# Altium schematic symbol library Compact Flash Reader2.SCHLIB: 61 symbols
Pins are listed as number, name and electrical type; pins without a type are passive.

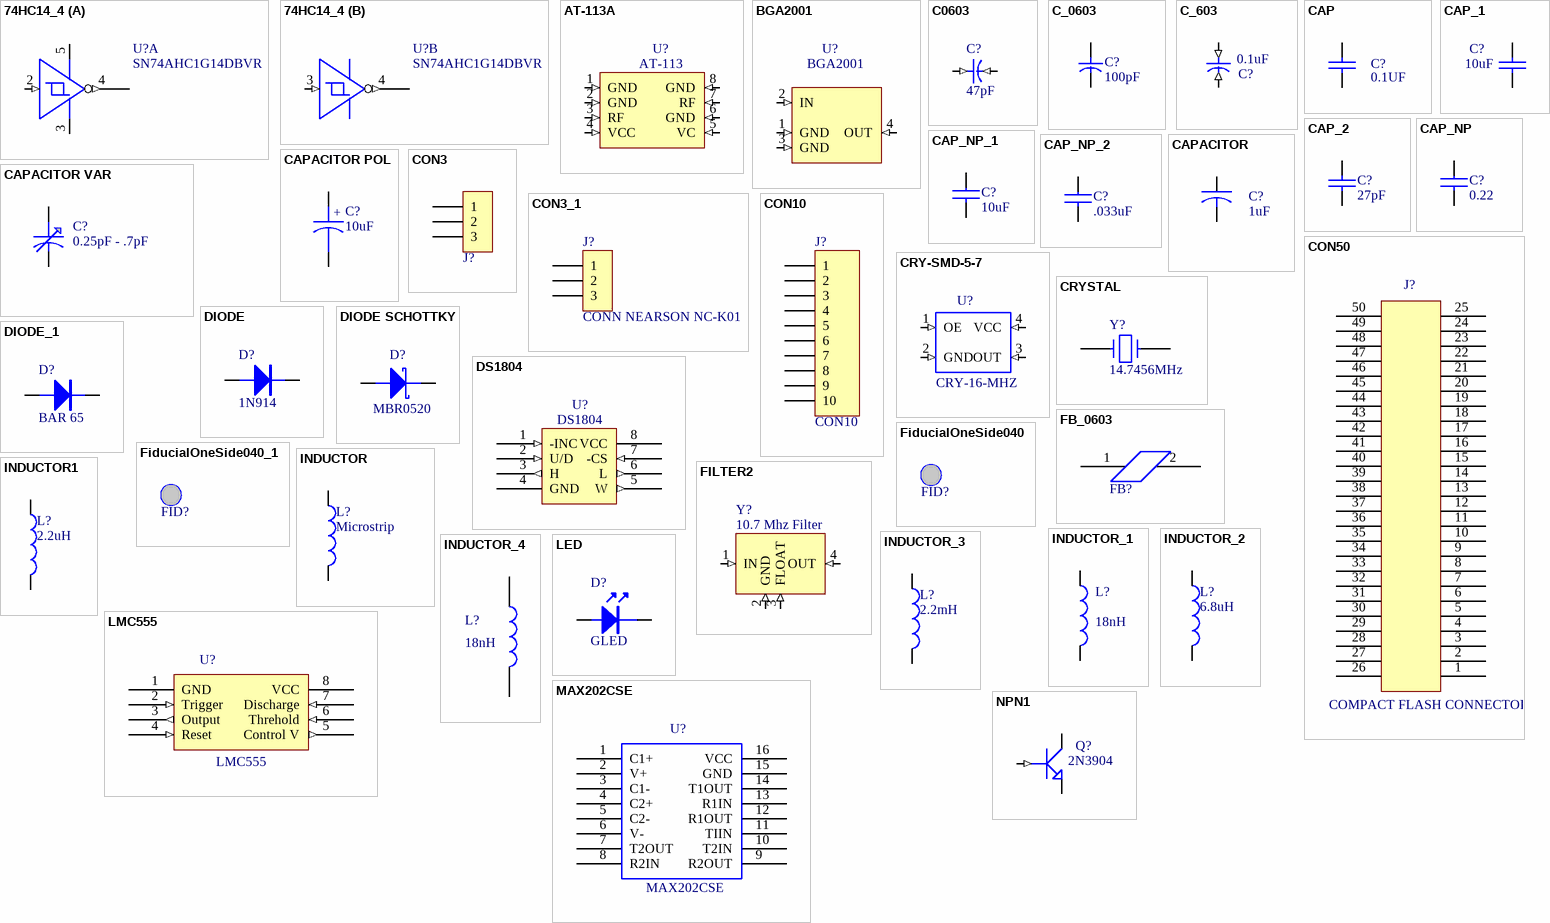
[diagram p0: symbols 74HC14_4 to NPN1]

## 74HC14_4
designator U?, comment SN74AHC1G14DBVR
footprint SOT23-5A
part A pins: 2 (in), 3, 4 (out), 5
part B pins: 3 2 (in), 4 (out)

## AT-113A
designator U?, comment AT-113
footprint SO8
pins: 1 GND (in), 2 GND (in), 3 RF (in), 4 VCC (in), 5 VC (in), 6 GND (in), 7 RF (in), 8 GND (in)

## BGA2001
designator U?
footprint SOT343
pins: 1 GND (in), 2 IN (in), 3 GND (in), 4 OUT (in)

## C0603
designator C?, comment 47pF
Part Field 1: Part Number 0603N470J500NT; Part Field 2: Vendor BC Components; Part Field 3: Description Cap, Ceramic, 47pF, 50V, NP0, 0603, SMD
footprint C0603
footprint 0603
pins: 1 A (in), 2 B (in)

## C_0603
designator C?, comment 100pF
Part Field 1: Part Number ECJ-1VC1H101J; Part Field 2: Vendor Panasonic - ECG; Part Field 3: Description CAP CERAMIC 100PF 50V 0603 SMD
footprint C-0603
footprint 0603
pins: 1 A, 2 B

## C_603
designator C?, comment 0.1uF
Part Field 1: Part Number ECJ-1VF1H104Z; Part Field 2: Vendor Panasonic - ECG; Part Field 3: Description CAP .1UF 50V CERAMIC Y5V 0603
footprint 0603
pins: 1 A (in), 2 B (in)

## CAP
designator C?, comment 0.1UF
Capacitor
footprint 0603
pins: 1, 2

## CAP_1
designator C?, comment 10uF
Capacitor
footprint CAP A CASE
pins: 1, 2

## CAP_2
designator C?, comment 27pF
Capacitor
pins: 1, 2

## CAP_NP
designator C?, comment 0.22
Text Field1: 20; Text Field2: 10
footprint 0603
pins: 1, 2

## CAP_NP_1
designator C?, comment 10uF
Text Field1: 20; Text Field2: 10
footprint CAP A CASE
pins: 1, 2

## CAP_NP_2
designator C?, comment .033uF
Text Field1: 20; Text Field2: 10
footprint 0805
pins: 1, 2

## CAPACITOR
designator C?, comment 1uF
Capacitor
pins: 1, 2

## CAPACITOR POL
designator C?, comment 10uF
Capacitor
footprint CAP A CASE
pins: 1, 2
text: +

## CAPACITOR VAR
designator C?, comment 0.25pF - .7pF
Text Field1: 20; Text Field2: 20
footprint CAP TRIMMER JOHANSON
pins: 1, 2

## CON3
designator J?, comment 1X3 HEADER  (value not drawn)
Connector
footprint 1X3 HEADER
pins: 1, 2, 3

## CON3_1
designator J?, comment CONN NEARSON NC-K01
Connector
footprint CONN NEARSON NC-K01
pins: 1, 2, 3

## CON10
designator J?
Connector
footprint 1X10 HEADER SPECIAL
pins: 1, 2, 3, 4, 5, 6, 7, 8, 9, 10

## CON50
designator J?, comment COMPACT FLASH CONNECTOR
pins: 1, 2, 3, 4, 5, 6, 7, 8, 9, 10, 11, 12, 13, 14, 15, 16, 17, 18, 19, 20, 21, 22, 23, 24, 25, 26, 27, 28, 29, 30, 31, 32, 33, 34, 35, 36, 37, 38, 39, 40, 41, 42, 43, 44, 45, 46, 47, 48, 49, 50

## CRY-SMD-5-7
designator U?, comment CRY-16-MHZ
footprint CRY-SMD-5-7
footprint SMT OSCILLATOR
pins: 1 OE (in), 2 GND (in), 3 OUT (in), 4 VCC (in)

## CRYSTAL
designator Y?, comment 14.7456MHz
Crystal
footprint SMT CRYSTAL
pins: 1, 2

## DIODE
designator D?, comment 1N914
Diode
footprint SOT23 DIODE
pins: A, K

## DIODE SCHOTTKY
designator D?, comment MBR0520
Schottky Diode
footprint SOD123
pins: A, K

## DIODE_1
designator D?, comment BAR 65
Diode
footprint DIODE SC79
pins: A, K

## DS1804
designator U?
Text Field1: 50; Text Field2: 50
footprint SO8 SMALL
pins: 1 -INC (in), 2 U/D (in), 3 H (out), 4 GND (power), 5 W (out), 6 L (out), 7 -CS (in), 8 VCC (power)

## FB_0603
designator FB?, comment FB  (value not drawn)
Part Field 1: Part Number EXC-ML16A270U; Part Field 2: Vendor Panasonic - ECG; Part Field 3: Description BEAD CORE 27 OHM 4A 0603 SMD
footprint L-603
footprint 0603
pins: 1 2, 2 1

## FiducialOneSide040
designator FID?, comment FD  (value not drawn)
PARTNO: N/A; VALUE: N/A
footprint FiducialOrigin_020205 (FEATURE SMT PCB)
pins: 0

## FiducialOneSide040_1
designator FID?, comment FD  (value not drawn)
PARTNO: N/A; VALUE: N/A
footprint FiducialOneSide_011905 (FEATURE SMT PCB)
pins: 0

## FILTER2
designator Y?, comment 10.7 Mhz Filter
footprint FILTER2
pins: 1 IN (in), 2 GND (in), 3 FLOAT (in), 4 OUT (in)

## INDUCTOR
designator L?, comment Microstrip
Text Field1: 20; Text Field2: 40
footprint MICROSTRIP
pins: 1, 2

## INDUCTOR1
designator L?, comment 2.2uH
footprint COIL BOURNS SDR7030-330M
pins: 1, 2

## INDUCTOR_1
designator L?, comment 18nH
Text Field1: 20; Text Field2: 40
footprint 0603
pins: 1, 2

## INDUCTOR_2
designator L?, comment 6.8uH
Text Field1: 20; Text Field2: 40
footprint 0805
pins: 1, 2

## INDUCTOR_3
designator L?, comment 2.2mH
Text Field1: 20; Text Field2: 40
footprint COIL TKS5540CT-ND
pins: 1, 2

## INDUCTOR_4
designator L?, comment 18nH
pins: 1, 2

## LED
designator D?, comment GLED
footprint SOD123 DIODE
pins: A, K

## LMC555
designator U?
Text Field1: 90; Text Field2: 50
footprint SO8 SMALL
pins: 1 GND (power), 2 Trigger (in), 3 Output (out), 4 Reset (in), 5 Control V (out), 6 Threhold (in), 7 Discharge (in), 8 VCC (power)

## MAX202CSE
designator U?
Part Field 1: Part Number MAX202CSE; Part Field 2: Vendor Maxim; Part Field 3: Description IC TRANSCEIVER RS232 5V 16-SOIC
footprint SO-16
footprint SO16
pins: 1 C1+, 2 V+, 3 C1-, 4 C2+, 5 C2-, 6 V-, 7 T2OUT, 8 R2IN, 9 R2OUT, 10 T2IN, 11 TIIN, 12 R1OUT, 13 R1IN, 14 T1OUT, 15 GND, 16 VCC

## NPN1
designator Q?, comment 2N3904
NPN Transistor
footprint SOT23 TRANS
pins: B (in), C, E

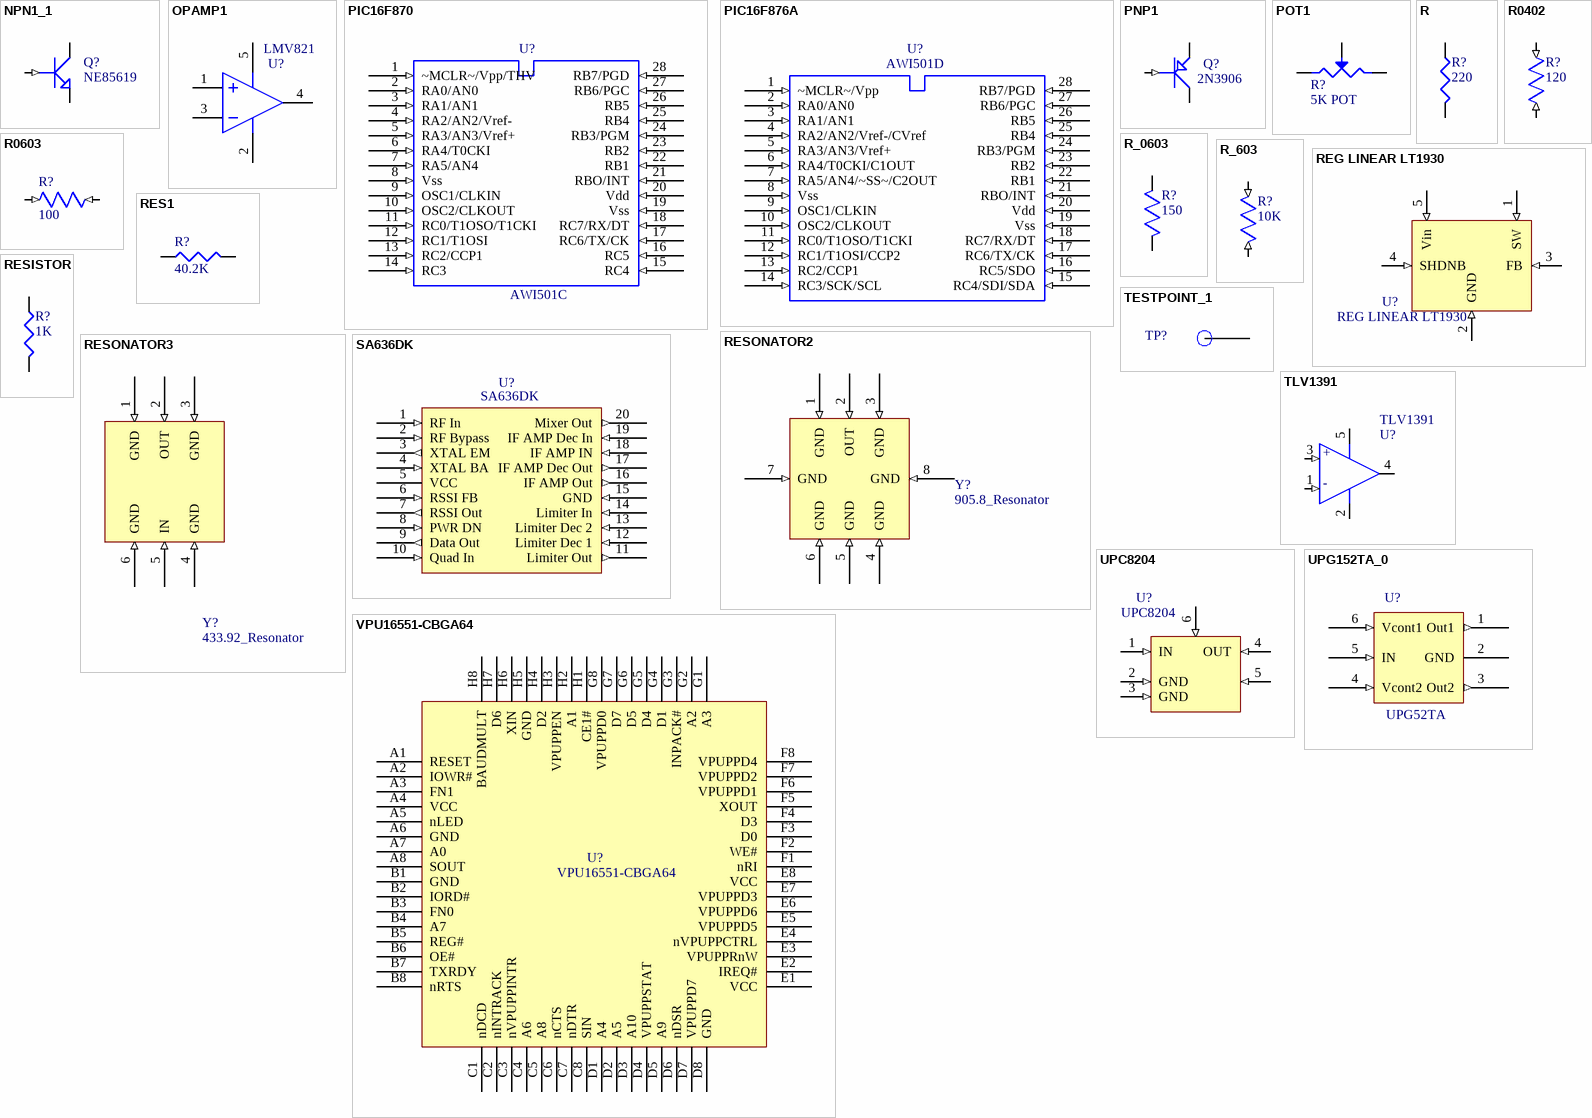
[diagram p1: symbols NPN1_1 to VPU16551-CBGA64]

## NPN1_1
designator Q?, comment NE85619
NPN Transistor
footprint 3 PIN ULTRA SUPER MINI MOLD
pins: B (in), C, E

## OPAMP1
designator U?, comment LMV821
footprint SOT25
pins: 1, 2, 3, 4, 5

## PIC16F870
designator U?, comment AWI501C
Part Field 1: Part Number PIC16F870-E/SO; Part Field 2: Vendor Microchip Technology; Part Field 3: Description IC MCU CMOS 20MHZ 2K FLSH 28SOIC
footprint PIC16F870
footprint SSOP28
pins: 1 ~MCLR~/Vpp/THV (in), 2 RA0/AN0 (in), 3 RA1/AN1 (in), 4 RA2/AN2/Vref- (in), 5 RA3/AN3/Vref+ (in), 6 RA4/T0CKI (in), 7 RA5/AN4 (in), 8 Vss (in), 9 OSC1/CLKIN (in), 10 OSC2/CLKOUT (in), 11 RC0/T1OSO/T1CKI (in), 12 RC1/T1OSI (in), 13 RC2/CCP1 (in), 14 RC3 (in), 15 RC4 (in), 16 RC5 (in), 17 RC6/TX/CK (in), 18 RC7/RX/DT (in), 19 Vss (in), 20 Vdd (in), 21 RBO/INT (in), 22 RB1 (in), 23 RB2 (in), 24 RB3/PGM (in), 25 RB4 (in), 26 RB5 (in), 27 RB6/PGC (in), 28 RB7/PGD (in)

## PIC16F876A
designator U?, comment AWI501D
Part Field 1: Part Number PIC16F876A-E/SO; Part Field 2: Vendor Microchip Technology; Part Field 3: Description IC MCU FLASH 8KX14 W/AD 28-SOIC
footprint SSOP-28
footprint SSOP28
pins: 1 ~MCLR~/Vpp (in), 2 RA0/AN0 (in), 3 RA1/AN1 (in), 4 RA2/AN2/Vref-/CVref (in), 5 RA3/AN3/Vref+ (in), 6 RA4/T0CKI/C1OUT (in), 7 RA5/AN4/~SS~/C2OUT (in), 8 Vss (in), 9 OSC1/CLKIN (in), 10 OSC2/CLKOUT (in), 11 RC0/T1OSO/T1CKI (in), 12 RC1/T1OSI/CCP2 (in), 13 RC2/CCP1 (in), 14 RC3/SCK/SCL (in), 15 RC4/SDI/SDA (in), 16 RC5/SDO (in), 17 RC6/TX/CK (in), 18 RC7/RX/DT (in), 19 Vss (in), 20 Vdd (in), 21 RBO/INT (in), 22 RB1 (in), 23 RB2 (in), 24 RB3/PGM (in), 25 RB4 (in), 26 RB5 (in), 27 RB6/PGC (in), 28 RB7/PGD (in)

## PNP1
designator Q?, comment 2N3906
PNP Transistor
footprint SOT23 TRANS
pins: B (in), C, E

## POT1
designator R?, comment 5K POT
Potentiometer
footprint POT PANA EVN5
pins: 1, 2, 3

## R
designator R?, comment 220
Text Field1: 20; Text Field2: 30
footprint 0603
pins: 1, 2

## R0402
designator R?, comment 120
Part Field 1: Part Number ERJ-3GEYJ121V; Part Field 2: Vendor Panasonic - ECG; Part Field 3: Description RES 120 OHM 1/10W 5% 0603 SMD
footprint 0402
footprint 0603
pins: 1 A (in), 2 B (in)

## R0603
designator R?, comment 100
Part Field 1: Part Number 9C06031A1000JLHFT; Part Field 2: Vendor Yageo America; Part Field 3: Description RES, 100 OHM, 1/10W, 5%, 0603, SMD
footprint R0603
footprint 0603
pins: 1 A (in), 2 B (in)

## R_0603
designator R?, comment 150
Part Field 1: Part Number 9C06031A1500JLHFT; Part Field 2: Vendor Yageo America; Part Field 3: Description RES 150 OHM 1/16W 5% 0603 SMD
footprint R-0603
footprint 0603
pins: 1 A, 2 B

## R_603
designator R?, comment 10K
Part Field 1: Part Number ERA-V15J103V; Part Field 2: Vendor Panasonic - ECG; Part Field 3: Description RES 10K OHM 1/16W 1500PPM 5%0603
footprint R-603
footprint 0603
pins: 1 A (in), 2 B (in)

## REG LINEAR LT1930
designator U?
footprint SOT23-5A
pins: 1 SW (in), 2 GND (in), 3 FB (in), 4 SHDNB (in), 5 Vin (in)

## RES1
designator R?, comment 40.2K
footprint 0603
pins: 1, 2

## RESISTOR
designator R?, comment 1K
Text Field1: 20; Text Field2: 30
footprint 0603
pins: 1, 2

## RESONATOR2
designator Y?, comment 905.8_Resonator
footprint RESONATOR2
pins: 1 GND (in), 2 OUT (in), 3 GND (in), 4 GND (in), 5 GND (in), 6 GND (in), 7 GND (in), 8 GND (in)

## RESONATOR3
designator Y?, comment 433.92_Resonator
pins: 1 GND (in), 2 OUT (in), 3 GND (in), 4 GND (in), 5 IN (in), 6 GND (in)

## SA636DK
designator U?
Text Field1: 120; Text Field2: 110
footprint SSOP20
pins: 1 RF In (in), 2 RF Bypass (in), 3 XTAL EM (out), 4 XTAL BA (in), 5 VCC (power), 6 RSSI FB (in), 7 RSSI Out (out), 8 PWR DN (in), 9 Data Out (out), 10 Quad In (in), 11 Limiter Out (out), 12 Limiter Dec 1 (in), 13 Limiter Dec 2 (in), 14 Limiter In (in), 15 GND (in), 16 IF AMP Out (out), 17 IF AMP Dec Out (out), 18 IF AMP IN (in), 19 IF AMP Dec In (in), 20 Mixer Out (out)

## TESTPOINT_1
designator TP?, comment TP  (value not drawn)
footprint TESTPOINT-1
footprint TEST POINT PAD
pins: 1 TP

## TLV1391
designator U?
Text Field1: 40; Text Field2: 40
footprint SOT25
pins: 1 - (in), 2 VSS (power), 3 + (in), 4 OUT (oc), 5 VDD (power)

## UPC8204
designator U?
pins: 1 IN (in), 2 GND (in), 3 GND (in), 4 OUT (in), 5 (in), 6 (in)

## UPG152TA_0
designator U?, comment UPG52TA
Text Field1: 60; Text Field2: 60
footprint TO6
pins: 1 Out1 (out), 2 GND (power), 3 Out2 (out), 4 Vcont2 (in), 5 IN (in), 6 Vcont1 (in)

## VPU16551-CBGA64
designator U?
footprint BGA68
pins: A1 RESET, A2 IOWR#, A3 FN1, A4 VCC (power), A5 nLED, A6 GND (power), A7 A0, A8 SOUT, B1 GND (power), B2 IORD#, B3 FN0, B4 A7, B5 REG#, B6 OE#, B7 TXRDY, B8 nRTS, C1 nDCD, C2 nINTRACK, C3 nVPUPPINTR, C4 A6, C5 A8, C6 nCTS, C7 nDTR, C8 SIN, D1 A4, D2 A5, D3 A10, D4 VPUPPSTAT, D5 A9, D6 nDSR, D7 VPUPPD7, D8 GND (power), E1 VCC (power), E2 IREQ#, E3 VPUPPRnW, E4 nVPUPPCTRL, E5 VPUPPD5, E6 VPUPPD6, E7 VPUPPD3, E8 VCC (power), F1 nRI, F2 WE#, F3 D0, F4 D3, F5 XOUT, F6 VPUPPD1, F7 VPUPPD2, F8 VPUPPD4, G1 A3, G2 A2, G3 INPACK#, G4 D1, G5 D4, G6 D5, G7 D7, G8 VPUPPD0, H1 CE1#, H2 A1, H3 VPUPPEN, H4 D2, H5 GND (power), H6 XIN, H7 D6, H8 BAUDMULT